# EAGLE library part SN65HDVA195-Q1 (library subieduino-lib)
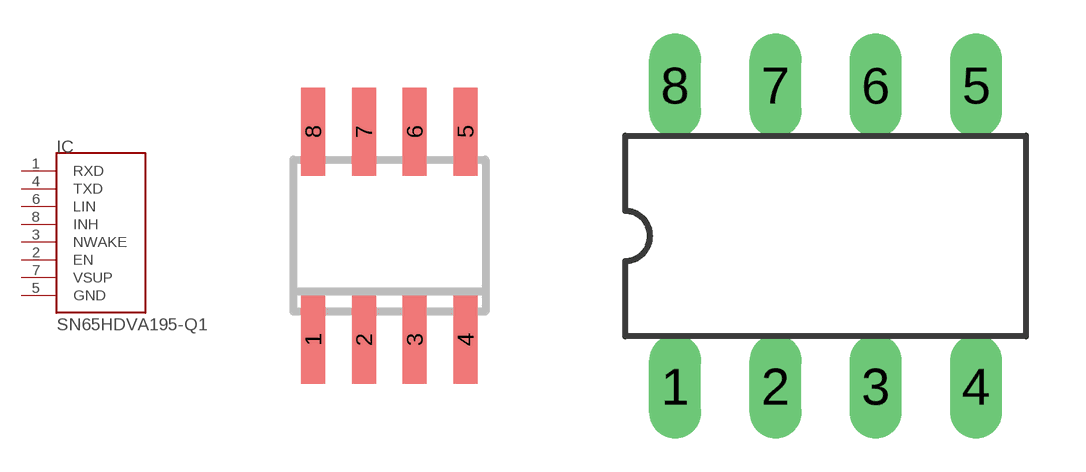
[diagram p4: symbol with the pads of SOIC8; footprints SOIC8, DIL8]

Designator prefix IC

## SN65HDVA195-Q1SOIC8  [SOIC8]
1  RXD  out
2  EN  in
3  NWAKE  in
4  TXD  in
5  GND  pwr
6  LIN
7  VSUP  pwr
8  INH  out

## SN65HDVA195-Q1DIL8  [DIL8]
Pads as for SOIC8

## Footprint SOIC8 (pad centres in mm)
Small Outline IC
smd 0.6 x 2.2: 1 -1.905,-2.6; 2 -0.635,-2.6; 3 0.635,-2.6; 4 1.905,-2.6; 5 1.905,2.6; 6 0.635,2.6; 7 -0.635,2.6; 8 -1.905,2.6

## Footprint DIL8 (pad centres in mm)
Dual In Line package type P
drill 0.813 long: 1 -3.81,-3.81; 2 -1.27,-3.81; 3 1.27,-3.81; 4 3.81,-3.81; 5 3.81,3.81; 6 1.27,3.81; 7 -1.27,3.81; 8 -3.81,3.81